# Altium footprint library KeystoneContacts.PcbLib: 22 footprints (part 2 of 2)
Each footprint in its own frame and in the unit in brackets; x right, y up, seen from the top. Pads: shape width x height; smd on the part's side, far side on the other; paste and mask are expansions set on the pad; w line width, h text height; cw(c..) or ccw(c..) is an arc to the next point about the centre after c.
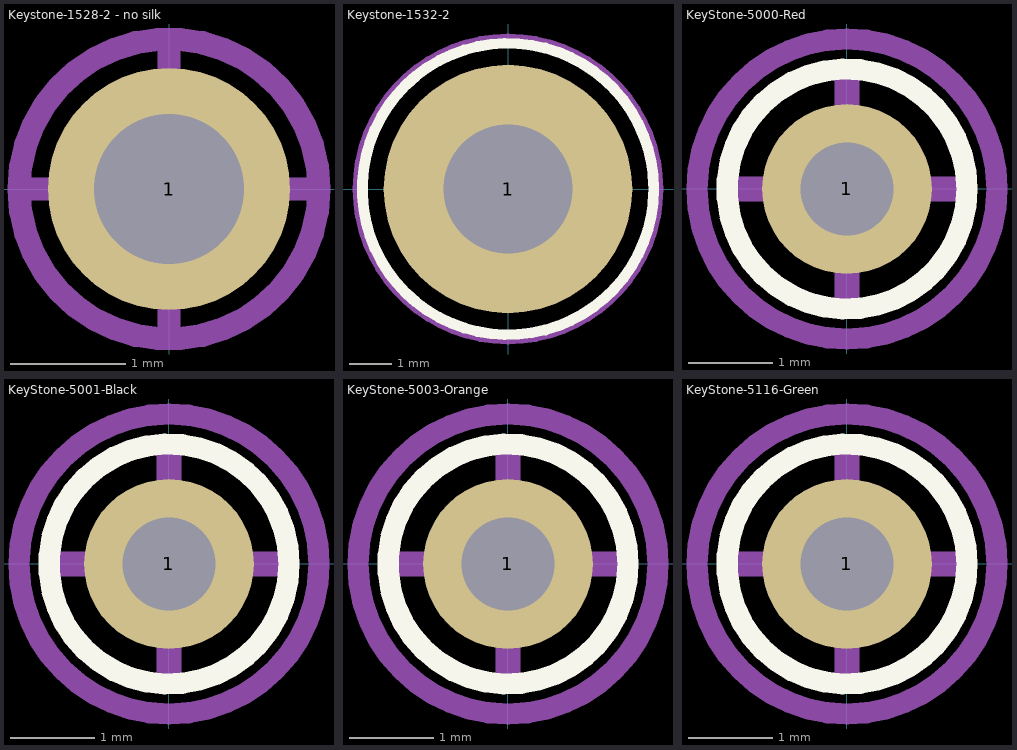
[diagram p1: the footprints below, top view; thin cyan lines are the x and y axes]

## Keystone-1528-2 - no silk [mm] "Самый тонкий"
height 2.36
pads (1):
  round 2.1 hole 1.3: 1(0,0)
Mechanical 13:
  circle w0.1: c0,0 r0.785
Mechanical 15:
  circle w0.2: c0,0 r1.3
  lines w0.2: -1.25,0 1.25,0 ; 0,-1.25 0,1.25
3D body "1528-2.stp": height 2.37, standoff -2.12, extent -0.785,-0.784 0.785,0.785

## Keystone-1532-2 [mm] "Самый толстый"
height 6
pads (1):
  round 5.8 hole 3: 1(0,0)
Top Overlay:
  circle w0.25: c0,0 r3.4
Mechanical 13:
  circle w0.1: c0,0 r2.375
Mechanical 15:
  circle w0.25: c0,0 r3.5
  lines w0.254: -2.75,0 2.75,0 ; 0,-2.75 0,2.75
3D body "1532-2.stp": height 5.95, standoff -2.66, extent -2.375,-2.375 2.375,2.375

## KeyStone-5000-Red [mm]
height 4.6
pads (1):
  round 2 hole 1.1: 1(0,0)
Top Overlay:
  circle w0.25: c0,0 r1.414
Mechanical 15:
  circle w0.25: c0,0 r1.768
  lines w0.3: -1.25,0 1.25,0 ; 0,-1.25 0,1.25
3D body "User Library-TEST POINT RED Keystone 5000.step": height 4.9, standoff -3.06, extent -1.27,-1.27 1.27,1.27

## KeyStone-5001-Black [mm]
height 4.6
pads (1):
  round 2 hole 1.1: 1(0,0)
Top Overlay:
  circle w0.25: c0,0 r1.414
Mechanical 15:
  circle w0.25: c0,0 r1.768
  lines w0.3: -1.25,0 1.25,0 ; 0,-1.25 0,1.25
3D body "User Library-TEST POINT BLK Keystone 5001.step": height 4.9, standoff -3.06, extent -1.27,-1.27 1.27,1.27

## KeyStone-5003-Orange [mm]
height 4.6
pads (1):
  round 2 hole 1.1: 1(0,0)
Top Overlay:
  circle w0.25: c0,0 r1.414
Mechanical 15:
  circle w0.25: c0,0 r1.768
  lines w0.3: -1.25,0 1.25,0 ; 0,-1.25 0,1.25
3D body "User Library-TEST POINT ORN Keystone 5003.step": height 4.9, standoff -3.06, extent -1.27,-1.27 1.27,1.27

## KeyStone-5116-Green [mm]
height 4.6
pads (1):
  round 2 hole 1.1: 1(0,0)
Top Overlay:
  circle w0.25: c0,0 r1.414
Mechanical 15:
  circle w0.25: c0,0 r1.768
  lines w0.3: -1.25,0 1.25,0 ; 0,-1.25 0,1.25
3D body "User Library-TEST POINT GRN Keystone 5116.step": height 4.9, standoff -3.06, extent -1.27,-1.27 1.27,1.27